# EAGLE library part NRF24L01_THROUGH (library GRITSBot)
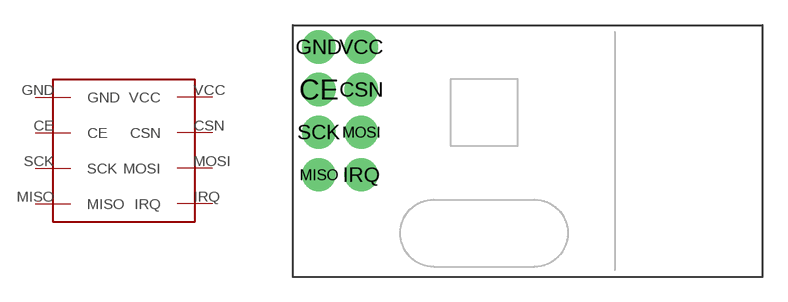
[diagram p17: symbol with the pads of NRF24L01_THROUGH; footprint NRF24L01_THROUGH]

Designator prefix -

## NRF24L01_THROUGH  [NRF24L01_THROUGH]
CE  CE
CSN  CSN
GND  GND
IRQ  IRQ
MISO  MISO
MOSI  MOSI
SCK  SCK
VCC  VCC

## Footprint NRF24L01_THROUGH (pad centres in mm)
drill 1 pad 1.981: CE -12.43,3.54; CSN -9.89,3.54; GND -12.43,6.08; IRQ -9.89,-1.54; MISO -12.43,-1.54; MOSI -9.89,1; SCK -12.43,1; VCC -9.89,6.08